# Altium schematic symbol library MX25V1606FM1I03.SchLib: 1 symbol
Pins are listed as number, name and electrical type; pins without a type are passive.

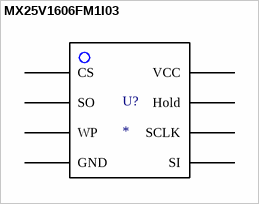
[diagram p0: symbol MX25V1606FM1I03]

## MX25V1606FM1I03
designator U?
PartNumber: MX25V1606FM1I03; PartDescription: SERIAL NOR 8SOP 16M; Manufacturer: Macronix; Package Type: 8 SOP; Supplier 1: Digi-Key; Supplier Part Number 1: 1092-MX25V1606FM1I03-ND
footprint 8SOP
pins: 1 CS, 2 SO, 3 WP, 4 GND, 5 SI, 6 SCLK, 7 Hold, 8 VCC